# Altium integrated library 2013978-1.IntLib: 1 symbol
Pins are listed as number, name and electrical type; pins without a type are passive.

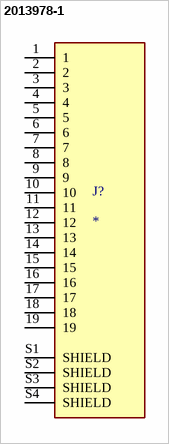
[diagram p0: symbol 2013978-1]

## 2013978-1
designator J?
Conn HDMI RCP 19 POS 0.4mm Solder RA SMD 19 Terminal 1 Port Embossed T/R; MP: 2013978-1; MF: {'manufacturer': 'TE Connectivity'}; Price: None; Value: *; Availability: Unavailable; Package: None
footprint TE_2013978-1
pins: 1, 2, 3, 4, 5, 6, 7, 8, 9, 10, 11, 12, 13, 14, 15, 16, 17, 18, 19, S1 SHIELD, S2 SHIELD, S3 SHIELD, S4 SHIELD